# Altium schematic symbol library Op-Amp LT1716.SchLib: 1 symbol
Pins are listed as number, name and electrical type; pins without a type are passive.

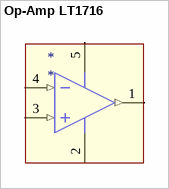
[diagram p0: symbol Op-Amp LT1716]

## Op-Amp LT1716
designator *
pins: 1 OUT (out), 2 V- (power), 3 IN+ (in), 4 IN- (in), 5 V+ (power)